# Altium footprint library Cap_Vishay_MAL219390101E3_eec_0.PcbLib: 1 footprints
Each footprint in its own frame and in the unit in brackets; x right, y up, seen from the top. Pads: shape width x height; smd on the part's side, far side on the other; paste and mask are expansions set on the pad; w line width, h text height; cw(c..) or ccw(c..) is an arc to the next point about the centre after c.
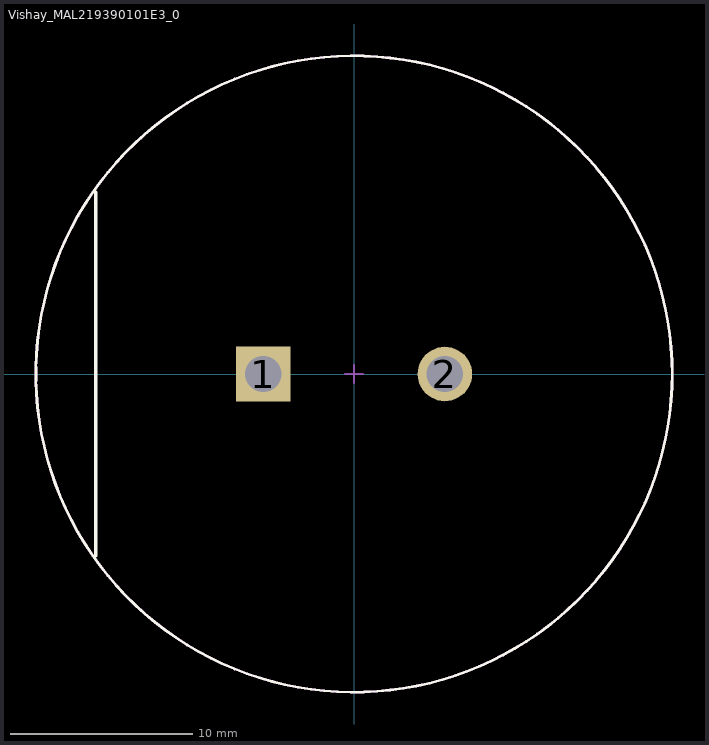
[diagram p0: the footprint, top view; thin cyan lines are the x and y axes]

## Vishay_MAL219390101E3_0 [mm]
pads (2):
  rect 3x3 hole 2 paste-1000 mask+0: 1(-5,0)
  round 3 hole 2 paste-1000 mask+0: 2(5,0)
Top Overlay:
  circle w0.15: c0,0 r17.5
  lines w0.2: -14.2,-10 -14.2,10
Mechanical 10:
  text ".Designator" at 0,0 h1
Mechanical 12:
  circle w0.15: c0,0 r17.5
Mechanical 15:
  lines w0.1: -0.5,0 0.5,0 ; 0,-0.5 0,0.5
3D body "3dmodel.step": height 0.25, standoff 0